# EAGLE library part WE-UNIT_STM_750310660 (library Wuerth_Elektronik_eiSos_V4)
Off-Line Transformer WE-Unit STM - Nominal input voltage: 85-265 VAC - Operating temperature: -40°C to +125 °C - Isolation voltage 4 kVAC -- Especially designed for several ICs from STMicroelectronics VIPer 17H -- Universal input -- Offline-switch mode power supplies
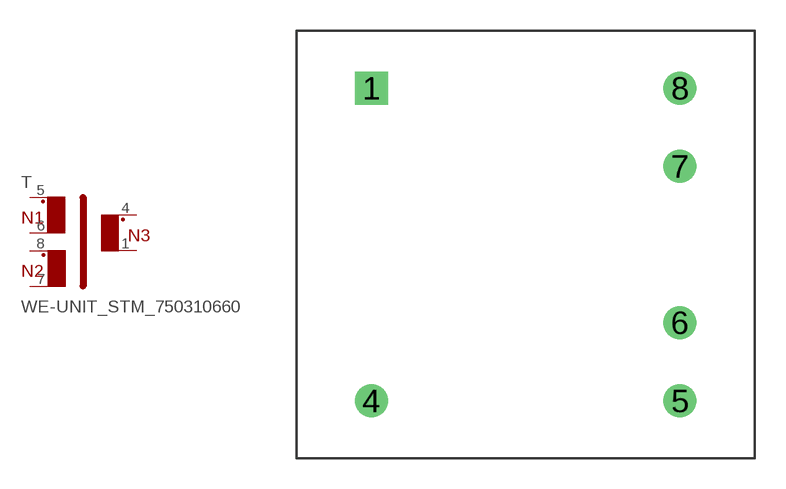
[diagram p50: symbol with the pads of WE_EE16/8/5_THT_HORIZONTAL_6PIN; footprint WE_EE16/8/5_THT_HORIZONTAL_6PIN]

Designator prefix T

## WE-UNIT_STM_750310660  [WE_EE16/8/5_THT_HORIZONTAL_6PIN]
1  5  pas
4  6  pas
5  1  pas
6  2  pas
7  4  pas
8  3  pas

## Footprint WE_EE16/8/5_THT_HORIZONTAL_6PIN (pad centres in mm)
Transformer, EE16/8/5 THT Horizontal 6 Pin
drill 1.07 square: 1 -7.525,7.62
drill 1.07: 4 -7.525,-7.62; 5 7.525,-7.62; 6 7.525,-3.81; 7 7.525,3.81; 8 7.525,7.62